# Altium footprint library openmv-ae3.PcbLib: 66 footprints (part 3 of 5)
Each footprint in its own frame and in the unit in brackets; x right, y up, seen from the top. Pads: shape width x height; smd on the part's side, far side on the other; paste and mask are expansions set on the pad; w line width, h text height; cw(c..) or ccw(c..) is an arc to the next point about the centre after c.
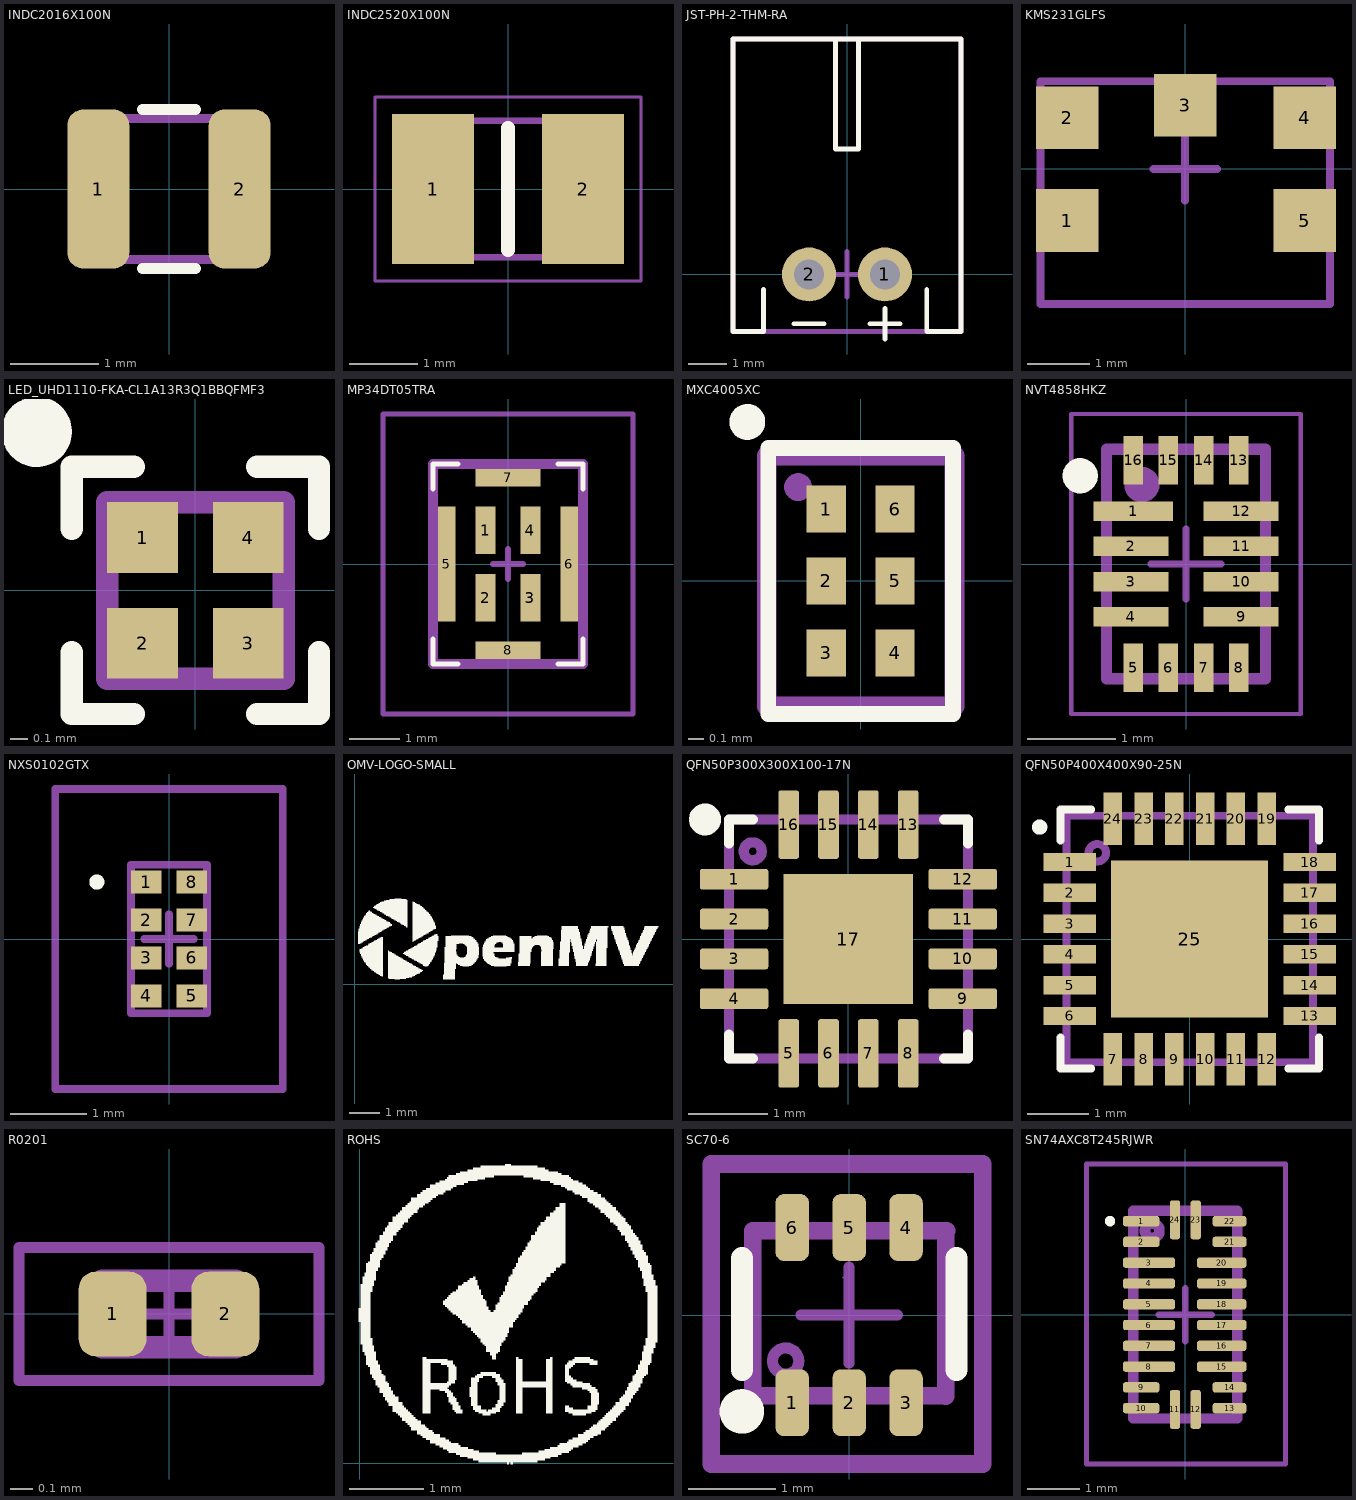
[diagram p2: the footprints below, top view; thin cyan lines are the x and y axes]

## INDC2016X100N [mm] "INDC2016X100N"
pads (2):
  rrect50% 0.7x1.8 smd: 1(-0.8,0) 2(0.8,0)
Top Overlay:
  lines w0.127: -0.3,-0.9 0.3,-0.9 ; -0.3,0.9 0.3,0.9
Top 3D Body:
  lines w0.1: -1,-0.8 1,-0.8 1,0.8 -1,0.8 -1,-0.8
  text ".designator" at -1,-0.95 h0.64
3D body: height 1, standoff 0, extent -1,-0.8 1,0.8

## INDC2520X100N [mm]
pads (2):
  rect 1.2x2.2 smd: 1(-1.1,0) 2(1.1,0)
Top Overlay:
  lines w0.2: 0,-0.9 0,0.9
Top Courtyard:
  lines w0.1: -1.25,-1 -1.25,1 1.25,1 1.25,-1 -1.25,-1
Mechanical 20:
  lines w0.05: -1.95,-1.35 -1.95,1.35 1.95,1.35 1.95,-1.35 -1.95,-1.35

## JST-PH-2-THM-RA [mil] "JST-PH-2-THM-RA"
pads (2):
  round 56 hole 31.5: 1(39.37,0) 2(-39.37,0)
Top Overlay:
  lines w5: -86.61,-15.75 -86.61,-59.06 -118.11,-59.06 -118.11,244.09 118.11,244.09 118.11,-59.06 86.61,-59.06 82.68,-59.06 82.68,-15.75 ; -55.12,-51.18 -23.62,-51.18 ; -11.81,244.09 -11.81,129.92 11.81,129.92 11.81,244.09 ; 23.62,-51.18 55.12,-51.18 ; 39.37,-66.93 39.37,-35.43
Top 3D Body:
  lines w5: -23.62,0 0,0 ; 0,-23.62 0,0 ; 0,23.62 0,0 ; 23.62,0 0,0 ; -118.11,-59.06 118.11,-59.06 118.11,244.09 -118.11,244.09 -118.11,-59.06
  text ".designator" at -90.55,49.2 h25
3D body "c-440055-2-b3-3d.stp": height 195.38, standoff -133.36, extent -118.11,-59.06 118.11,244.09

## KMS231GLFS [mm]
pads (5):
  rect 1x1 smd: 1(-1.88,-0.825) 2(-1.88,0.813) 3(0,1.016) 4(1.905,0.813) 5(1.905,-0.825)
Top 3D Body:
  lines w0.127: -0.508,0 0,0 ; 0,-0.508 0,0 ; 0,0.508 0,0 ; 0.508,0 0,0 ; -2.311,-2.159 2.311,-2.159 2.311,1.397 -2.311,1.397 -2.311,-2.159
  text ".designator" at -2.108,-2.277 h0.64
3D body "KMS231GLFS.stp": height 1.43, standoff -0.01, extent -2.3,-2.15 2.3,1.4

## LED_UHD1110-FKA-CL1A13R3Q1BBQFMF3 [mm] "LED_UHD1110-FKA-CL1A13R3Q1BBQFMF3"
pads (4):
  rect 0.4x0.4 smd: 1(-0.3,0.3) 2(-0.3,-0.3) 3(0.3,-0.3) 4(0.3,0.3)
Top Overlay:
  circle w0.2: c-0.9,0.9 r0.1
  lines w0.127: -0.7,-0.35 -0.7,-0.7 -0.35,-0.7 ; -0.7,0.35 -0.7,0.7 -0.35,0.7 ; 0.35,-0.7 0.7,-0.7 0.7,-0.35 ; 0.35,0.7 0.7,0.7 0.7,0.35
Top 3D Body:
  circle w0.127: c-0.3,0.3 r0.06
  lines w0.127: -0.5,-0.5 0.5,-0.5 0.5,0.5 -0.5,0.5 -0.5,-0.5
  text ".designator" at -0.7,0.35 h0.64
3D body: height 0.62, standoff 0, extent 0.2,-0.2 0.357,0.2
3D body: height 0.62, standoff 0, extent -0.35,-0.3 -0.161,-0.05
3D body: height 0.62, standoff 0, extent -0.34,0.049 -0.155,0.3
3D body: height 0.6, standoff 0, extent -0.5,-0.5 0.5,0.5

## MP34DT05TRA [mm]
pads (8):
  rect 0.4x0.95 smd: 1(-0.45,0.675) 2(-0.45,-0.675) 3(0.45,-0.675) 4(0.45,0.675)
  rect 0.35x2.3 smd: 5(-1.225,0) 6(1.225,0)
  rect 1.3x0.35 smd: 7(0,1.725) 8(0,-1.725)
Top Overlay:
  lines w0.1: -1.5,-1.5 -1.5,-2 -1,-2 ; -1.5,1.5 -1.5,2 -1,2 ; 1,-2 1.5,-2 1.5,-1.5 ; 1,2 1.5,2 1.5,1.5
Top 3D Body:
  lines w0.127: -0.3,0 0,0 ; 0,-0.3 0,0 ; 0,0.3 0,0 ; 0.3,0 0,0
  lines w0.2: -1.5,-2 -1.5,2 1.5,2 1.5,-2 -1.5,-2
  text ".designator" at -1.2,0.224 h0.64
Mechanical 20:
  lines w0.1: -2.5,-3 -2.5,3 2.5,3 2.5,-3 -2.5,-3
3D body: height 1, standoff 0, extent -1.5,-2 1.5,2

## MXC4005XC [mm] "MXC4005XC"
pads (6):
  rect 0.25x0.3 smd: 1(-0.22,0.46) 2(-0.22,0) 3(-0.22,-0.46) 4(0.22,-0.46) 5(0.22,0) 6(0.22,0.46)
Top Overlay:
  circle w0.127: c-0.724,1.016 r0.051
  lines w0.1: -0.59,-0.85 -0.59,0.85 0.59,0.85 0.59,-0.85 -0.59,-0.85
Top 3D Body:
  circle w0.127: c-0.4,0.6 r0.025
  lines w0.127: -0.6,-0.8 0.6,-0.8 0.6,0.8 -0.6,0.8 -0.6,-0.8
  text ".designator" at 0.75,-0.7 h0.64
3D body: height 0.62, standoff 0, extent -0.6,-0.8 0.6,0.8

## NVT4858HKZ [mm]
height 0.5
pads (16):
  rect 0.9x0.22 smd paste-0.025 mask+0.05: 1(-0.6,0.6)
  rect 0.85x0.22 smd paste-0.025 mask+0: 2(-0.625,0.2) 3(-0.625,-0.2) 4(-0.625,-0.6) 9(0.625,-0.6) 10(0.625,-0.2) 11(0.625,0.2) 12(0.625,0.6)
  rect 0.22x0.55 smd paste-0.025 mask+0.05: 5(-0.6,-1.175) 6(-0.2,-1.175) 7(0.2,-1.175) 8(0.6,-1.175) 13(0.6,1.175) 14(0.2,1.175) 15(-0.2,1.175) 16(-0.6,1.175)
Top Overlay:
  circle w0.2: c-1.2,1 r0.1
Top Solder:
  region: 1.1,0.45 0.15,0.45 0.15,0.75 1.1,0.75
  region: 1.1,0.05 0.15,0.05 0.15,0.35 1.1,0.35
  region: 1.1,-0.35 0.15,-0.35 0.15,-0.05 1.1,-0.05
  region: 1.1,-0.75 0.15,-0.75 0.15,-0.45 1.1,-0.45
  region: -0.15,-0.75 -1.1,-0.75 -1.1,-0.45 -0.15,-0.45
  region: -0.15,-0.35 -1.1,-0.35 -1.1,-0.05 -0.15,-0.05
  region: -0.15,0.05 -1.1,0.05 -1.1,0.35 -0.15,0.35
Top 3D Body:
  circle w0.2: c-0.5,0.9 r0.1
  lines w0.076: -0.4,0 0.4,0 ; 0,-0.4 0,0.4
  lines w0.127: -0.9,-1.3 0.9,-1.3 0.9,1.3 -0.9,1.3 -0.9,-1.3
  text ".designator" at -0.7,-1.66 h0.51
Top Courtyard:
  lines w0.05: -1.3,-1.7 1.3,-1.7 1.3,1.7 -1.3,1.7 -1.3,-1.7
3D body: height 0.5, standoff 0, extent -0.9,-1.3 0.9,1.3

## NXS0102GTX [mm]
pads (8):
  rect 0.4x0.3 smd mask+0.051: 1(-0.3,0.75) 2(-0.3,0.25) 3(-0.3,-0.25) 4(-0.3,-0.75) 5(0.3,-0.75) 6(0.3,-0.25) 7(0.3,0.25) 8(0.3,0.75)
Top Overlay:
  lines w0.1: -1,0.75 ccw(c-0.95,0.75) -0.9,0.75 ccw(c-0.95,0.75) -1,0.75
Top 3D Body:
  lines w0.1: -0.325,0 0,0 ; 0,-0.325 0,0 ; 0,0.325 0,0 ; 0.325,0 0,0 ; -0.5,-0.975 0.5,-0.975 0.5,0.975 -0.5,0.975 -0.5,-0.975
  text ".designator" at -0.4,-1.301 h0.3
Top Courtyard:
  lines w0.1: -0.5,-0.975 -0.5,0.975 0.5,0.975 0.5,-0.975 -0.5,-0.975
Mechanical 20:
  lines w0.1: -1.5,-1.975 -1.5,1.975 1.5,1.975 1.5,-1.975 -1.5,-1.975
3D body: height 0.51, standoff 0, extent -0.5,-0.975 0.5,0.975

## OMV-LOGO-SMALL [mm] "OMV-LOGO-SMALL"
Top Overlay:
  drawing of 701 lines, arcs and shapes, not listed

## QFN50P300X300X100-17N [mil] "QFN50P300X300X100-17N"
pads (17):
  rrect25% 33.86x10.24 smd mask+2: 1(-56.5,29.53) 2(-56.5,9.84) 3(-56.5,-9.84) 4(-56.5,-29.53) 9(56.5,-29.53) 10(56.5,-9.84) 11(56.5,9.84) 12(56.5,29.53)
  rrect25% 10.24x33.86 smd mask+2: 5(-29.53,-56.5) 6(-9.84,-56.5) 7(9.84,-56.5) 8(29.53,-56.5) 13(29.53,56.5) 14(9.84,56.5) 15(-9.84,56.5) 16(-29.53,56.5)
  rect 64x64 smd paste+0 mask+2: 17(0,0)
Top Overlay:
  circle w7.87: c-70.87,59.06 r3.94
  lines w5: -59.06,-47.24 -59.06,-59.06 -47.24,-59.06 ; -59.06,47.24 -59.06,59.06 -47.24,59.06 ; 47.24,-59.06 59.06,-59.06 59.06,-47.24 ; 47.24,59.06 59.06,59.06 59.06,47.24
Top Paste:
  region: -20.87,-20.87 -20.87,20.87 20.87,20.87 20.87,-20.87
Top 3D Body:
  circle w5: c-47.24,43.31 r4.46
  lines w5: -11.81,0 0,0 ; 0,-11.81 0,0 ; 0,11.81 0,0 ; 11.81,0 0,0 ; -59.06,-59.06 59.06,-59.06 59.06,59.06 -59.06,59.06 -59.06,-59.06
  text ".designator" at -55.12,-64.97 h25
3D body: height 39.37, standoff 0, extent -59.06,-59.06 59.06,59.06

## QFN50P400X400X90-25N [mm] "QFN50P400X400X90-25N"
pads (25):
  rect 0.85x0.3 smd mask+0.05: 1(-1.95,1.25) 2(-1.95,0.75) 3(-1.95,0.25) 4(-1.95,-0.25) 5(-1.95,-0.75) 6(-1.95,-1.25) 13(1.95,-1.25) 14(1.95,-0.75) 15(1.95,-0.25) 16(1.95,0.25) 17(1.95,0.75) 18(1.95,1.25)
  rect 0.3x0.85 smd mask+0.05: 7(-1.25,-1.95) 8(-0.75,-1.95) 9(-0.25,-1.95) 10(0.25,-1.95) 11(0.75,-1.95) 12(1.25,-1.95) 19(1.25,1.95) 20(0.75,1.95) 21(0.25,1.95) 22(-0.25,1.95) 23(-0.75,1.95) 24(-1.25,1.95)
  rect 2.55x2.55 smd mask+0.05: 25(0,0)
Top Overlay:
  circle w0.127: c-2.436,1.816 r0.06
  lines w0.127: -2.1,-1.6 -2.1,-2.1 -1.6,-2.1 ; -2.1,1.6 -2.1,2.1 -1.6,2.1 ; 1.6,-2.1 2.1,-2.1 2.1,-1.6 ; 1.6,2.1 2.1,2.1 2.1,1.6
Top 3D Body:
  circle w0.127: c-1.5,1.4 r0.142
  lines w0.127: -0.3,0 0,0 ; 0,-0.3 0,0 ; 0,0.3 0,0 ; 0.3,0 0,0 ; -2,-2 2,-2 2,2 -2,2 -2,-2
  text ".designator" at -1.8,-2.05 h0.64
3D body: height 1, standoff 0, extent -2,-2 2,2

## R0201 [mil] "0201 IPC-7351"
height 10.24
pads (2):
  rrect50% 12x15 smd mask+1.97: 1(-10,0) 2(10,0)
Top 3D Body:
  lines w3.94: -11.81,-5.91 -11.81,5.91 11.81,5.91 11.81,-5.91 -11.81,-5.91
  text ".designator" at -7.87,-2.95 h15.75
Top Courtyard:
  lines w1.97: -3.94,0 0,0 ; 0,-3.94 0,0 ; 0,3.94 0,0 ; 3.94,0 0,0 ; -26.57,-11.81 -26.57,11.81 26.57,11.81 26.57,-11.81 -26.57,-11.81
3D body "R0201.step": height 9.06, standoff 0, extent -11.81,-5.91 11.81,5.91

## ROHS [mm] "ROHS"
Top Overlay:
  drawing of 599 lines, arcs and shapes, not listed

## SC70-6 [mil]
height 50.98
pads (6):
  rrect50% 15x30 smd: 1(-25.59,-39.37) 2(0,-39.37) 3(25.59,-39.37) 4(25.59,39.37) 5(0,39.37) 6(-25.59,39.37)
Top Overlay:
  circle w10: c-48.23,-43.31 r5
  lines w10: -48.23,-24.61 -48.23,25.59 ; 48.23,-24.61 48.23,25.59
Top 3D Body:
  circle w5: c-28.54,-20.67 r5.91
  lines w5: -13.78,0 -0.01,0 ; -0.01,-12.8 -0.01,-0.01 ; -0.01,12.8 -0.01,-0.01 ; 13.78,-0.01 -0.01,-0.01
  lines w7.87: -43.31,-36.35 43.24,-36.35 43.31,-36.42 43.31,37.4 43.75,37.84 -43.31,37.84 -43.31,-36.35
  text ".designator" at -36.42,16.73 h15.75
Top Courtyard:
  lines w0.1: -2.99,16.88 -0.99,18.88
  lines w4.92: -21.65,0 0,0 ; 0,-21.65 0,0 ; 0,21.65 0,0 ; 21.65,0 0,0
  lines w7.87: -62.01,-66.93 60.04,-66.93 60.04,67.91 -62.01,67.91 -62.01,-66.93
3D body "SC-70.stp": height 43.31, standoff 0, extent -43.31,-47.24 43.31,47.24

## SN74AXC8T245RJWR [mm]
pads (24):
  rrect50% 0.7x0.2 smd mask+0.051: 1(-0.85,1.8) 2(-0.85,1.4) 9(-0.85,-1.4) 10(-0.85,-1.8)
  rrect50% 1x0.2 smd mask+0.051: 3(-0.7,1) 4(-0.7,0.6) 5(-0.7,0.2) 6(-0.7,-0.2) 7(-0.7,-0.6) 8(-0.7,-1)
  rrect50% 0.2x0.75 smd mask+0.051: 11(-0.2,-1.825) 12(0.2,-1.825) 23(0.2,1.825) 24(-0.2,1.825)
  rrect50% 0.65x0.2 smd mask+0.051: 13(0.85,-1.8) 14(0.85,-1.4) 21(0.85,1.4) 22(0.85,1.8)
  rrect50% 0.95x0.2 smd mask+0.051: 15(0.7,-1) 16(0.7,-0.6) 17(0.7,-0.2) 18(0.7,0.2) 19(0.7,0.6) 20(0.7,1)
Top Overlay:
  lines w0.1: -1.5,1.8 ccw(c-1.45,1.8) -1.4,1.8 ccw(c-1.45,1.8) -1.5,1.8
Top 3D Body:
  circle w0.203: c-0.638,1.614 r0.139
  lines w0.127: -0.508,0 0,0 ; 0,-0.508 0,0 ; 0,0.508 0,0 ; 0.508,0 0,0 ; -1,-2.025 1.025,-2.025 1.025,1.975 -1,1.975 -1,-2.025
  text ".designator" at -0.95,0.328 h0.64
Top Courtyard:
  lines w0.2: -1,-2 -1,2 1,2 1,-2 -1,-2
Mechanical 20:
  lines w0.1: -1.9,-2.875 -1.9,2.9 1.925,2.9 1.925,-2.875 -1.9,-2.875
3D body: height 0.51, standoff 0, extent -1,-2.025 1.025,1.975